# EAGLE library part HEADER-12P (library Connector )
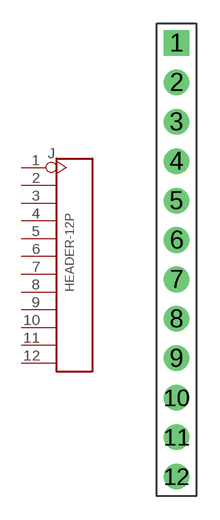
[diagram p14: symbol with the pads of 12P-2.54; footprint 12P-2.54]

Designator prefix J

## HEADER-12P-2.54  [12P-2.54]
1  1
2  2
3  3
4  4
5  5
6  6
7  7
8  8
9  9
10  10
11  11
12  12

## Footprint 12P-2.54 (pad centres in mm)
drill 0.889 pad 1.651 square: 1 0,13.97
drill 0.889 pad 1.651: 2 0,11.43; 3 0,8.89; 4 0,6.35; 5 0,3.81; 6 0,1.27; 7 0,-1.27; 8 0,-3.81; 9 0,-6.35; 10 0,-8.89; 11 0,-11.43; 12 0,-13.97